# Altium schematic symbol library Transistors.SchLib: 4 symbols
Pins are listed as number, name and electrical type; pins without a type are passive.

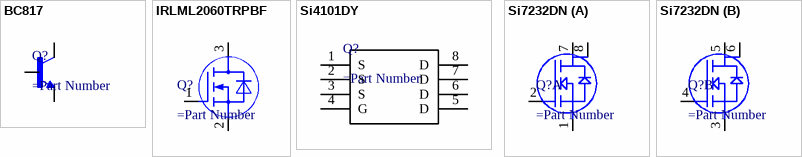
[diagram p0: symbols BC817 to Si7232DN]

## BC817
designator Q?
MF: Rectron; MP: BC817; SnapEDA_Link: https://www.snapeda.com/parts/BC817/Rectron/view-part/?ref=snap; Package: SOT-23-3 Rectron; Value: *; Check_prices: https://www.snapeda.com/parts/BC817/Rectron/view-part/?ref=eda
pins: 1 B, 2 E, 3 C

## IRLML2060TRPBF
designator Q?
pins: 1 GATE, 2 SOURCE, 3 DRAIN

## Si4101DY
designator Q?
pins: 1 S, 2 S, 3 S, 4 G, 5 D, 6 D, 7 D, 8 D

## Si7232DN
designator Q?
part A pins: 1 S, 2 G, 7 D, 8 D
part B pins: 3 S, 4 G, 5 D, 6 D